# Altium schematic symbol library AND.SchLib: 1 symbol
Pins are listed as number, name and electrical type; pins without a type are passive.

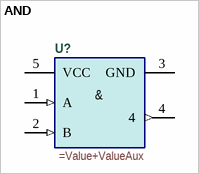
[diagram p0: symbol AND]

## AND
designator U?
=Description
pins: 1 A (in), 2 B (in), 3 GND (power), 4 (out), 5 VCC (power)
text: &